# Altium schematic symbol library K_conn_edge.SchLib: 2 symbols
Pins are listed as number, name and electrical type; pins without a type are passive.

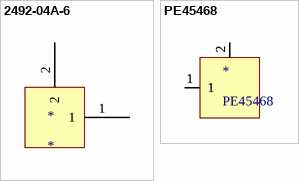
[diagram p0: symbols 2492-04A-6 to PE45468]

## 2492-04A-6
designator *
Southwest Microwave's 1.0mm connector (2492-04A-6)
footprint 2492-04A-6 (Southwest Microwave's 1.0mm connector (2492-04A-6))
pins: 1, 2

## PE45468
designator *
footprint PE45468
pins: 1, 1, 2 GND, 2 GND